# Altium footprint library BATT_PACK.PcbLib: 1 footprints
Each footprint in its own frame and in the unit in brackets; x right, y up, seen from the top. Pads: shape width x height; smd on the part's side, far side on the other; paste and mask are expansions set on the pad; w line width, h text height; cw(c..) or ccw(c..) is an arc to the next point about the centre after c.
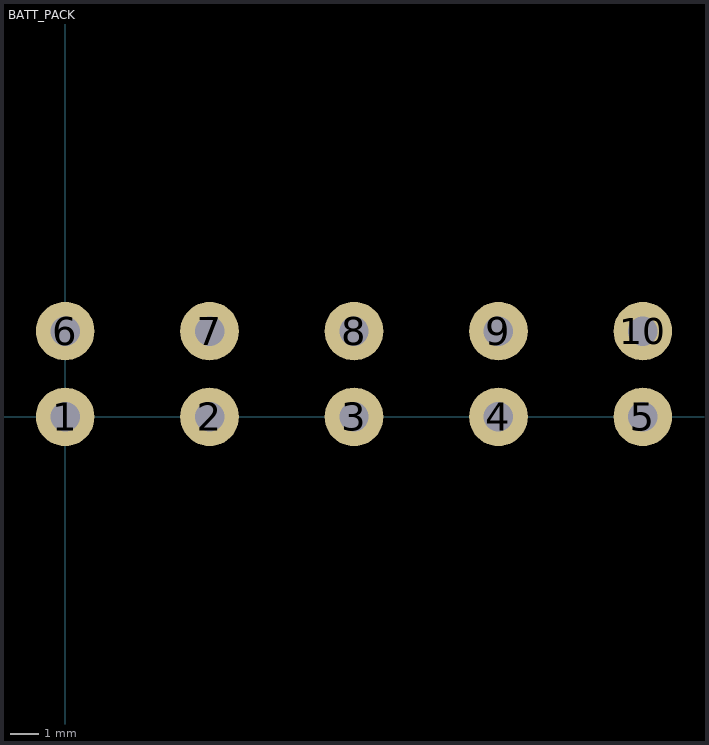
[diagram p0: the footprint, top view; thin cyan lines are the x and y axes]

## BATT_PACK [mil]
pads (10):
  round 80 hole 40.16: 1(0,0) 2(197,0) 3(394,0) 4(591,0) 5(788,0) 6(0,117) 7(197,117) 8(394,117) 9(591,117) 10(788,117)
3D body: height 354.03, standoff -121.01, extent -140.19,-134.9 923.96,250.93